# EAGLE library part LTC3621 (library Lysenko_Eagle_Lib)
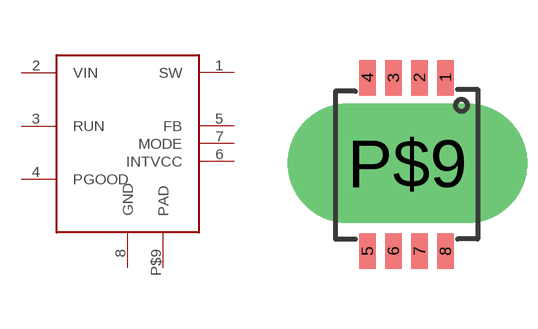
[diagram p18: symbol with the pads of MS8E; footprint MS8E]

Designator prefix -

## LTC3621  [MS8E]
1  SW
2  VIN
3  RUN
4  PGOOD
5  FB
6  INTVCC
7  MODE
8  GND
P$9  PAD

## Footprint MS8E (pad centres in mm)
smd 0.42 x 0.889: 1 1.95,4.341; 2 1.3,4.341; 3 0.65,4.341; 4 0,4.341; 5 0,0; 6 0.65,0; 7 1.3,0; 8 1.95,0
drill 2 pad 2.184 long: P$9 1,2.2